# Altium footprint library Power_Distribution.PcbLib: 2 footprints
Each footprint in its own frame and in the unit in brackets; x right, y up, seen from the top. Pads: shape width x height; smd on the part's side, far side on the other; paste and mask are expansions set on the pad; w line width, h text height; cw(c..) or ccw(c..) is an arc to the next point about the centre after c.
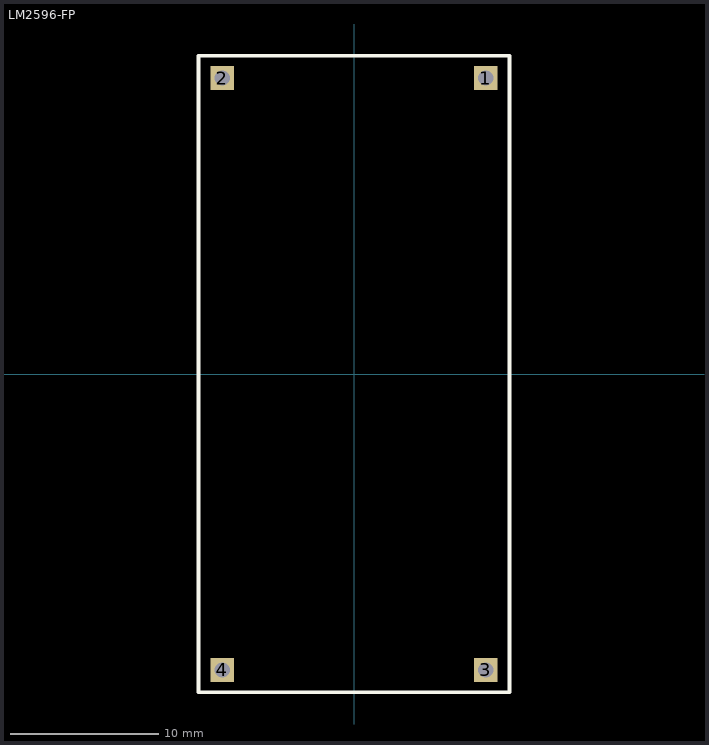
[diagram p0: the footprints below, top view; thin cyan lines are the x and y axes]

## LM2596-FP [mm]
pads (4):
  rect 1.6x1.6 hole 1.02: 1(8.9,20) 2(-8.9,20) 3(8.9,-20) 4(-8.9,-20)
Top Overlay:
  lines w0.254: -10.5,-21.5 10.5,-21.5 10.5,21.5 -10.5,21.5 -10.5,-21.5
3D body "DC-DC MODULE LM2596s.STEP": height 17.56, standoff 3.75, extent -10.5,-21.75 10.5,21.75

## LM2596-Module [mm]